# EAGLE library part MOLEX_CONNECTOR_10PINS (library con-special_purpose)
Molex Connector : PicoBlade 1.25 mm pitch, 10 pins, Vertical SMD
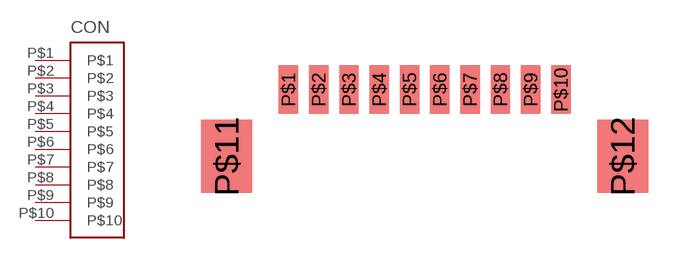
[diagram p14: symbol with the pads of MOLEX_CONNECTOR_10PINS; footprint MOLEX_CONNECTOR_10PINS]

Designator prefix CON

## MOLEX_CONNECTOR_10PINSMOLEX_PICOBLADE (DISTRIBUTOR: Digikey; ORDER_CODE: WM7628CT-ND; PLACE_PART: YES; UNIT_PRICE: 1.74; UNIT_PRICE_100X: 1.3578; UNIT_PRICE_10X: 1.584; UNIT_PRICE_25X: 1.4868; UNIT_PRICE_50X: 1.4224)  [MOLEX_CONNECTOR_10PINS]
P$1  P$1
P$2  P$2
P$3  P$3
P$4  P$4
P$5  P$5
P$6  P$6
P$7  P$7
P$8  P$8
P$9  P$9
P$10  P$10

## MOLEX_CONNECTOR_10PINSHIROSE_DF13 (DISTRIBUTOR: Digikey; ORDER_CODE: H3375-ND; PLACE_PART: YES)  [MOLEX_CONNECTOR_10PINS]
Pads as for MOLEX_CONNECTOR_10PINS

## Footprint MOLEX_CONNECTOR_10PINS (pad centres in mm)
smd 0.8 x 2: P$1 -11.65,-0.65; P$2 -10.4,-0.65; P$3 -9.15,-0.65; P$4 -7.9,-0.65; P$5 -6.65,-0.65; P$6 -5.4,-0.65; P$7 -4.15,-0.65; P$8 -2.9,-0.65; P$9 -1.65,-0.65; P$10 -0.4,-0.65
smd 2.1 x 3: P$11 -14.2,-3.4; P$12 2.15,-3.4